# Altium footprint library MoBo_PcbLib.PcbLib: 16 footprints
Each footprint in its own frame and in the unit in brackets; x right, y up, seen from the top. Pads: shape width x height; smd on the part's side, far side on the other; paste and mask are expansions set on the pad; w line width, h text height; cw(c..) or ccw(c..) is an arc to the next point about the centre after c.
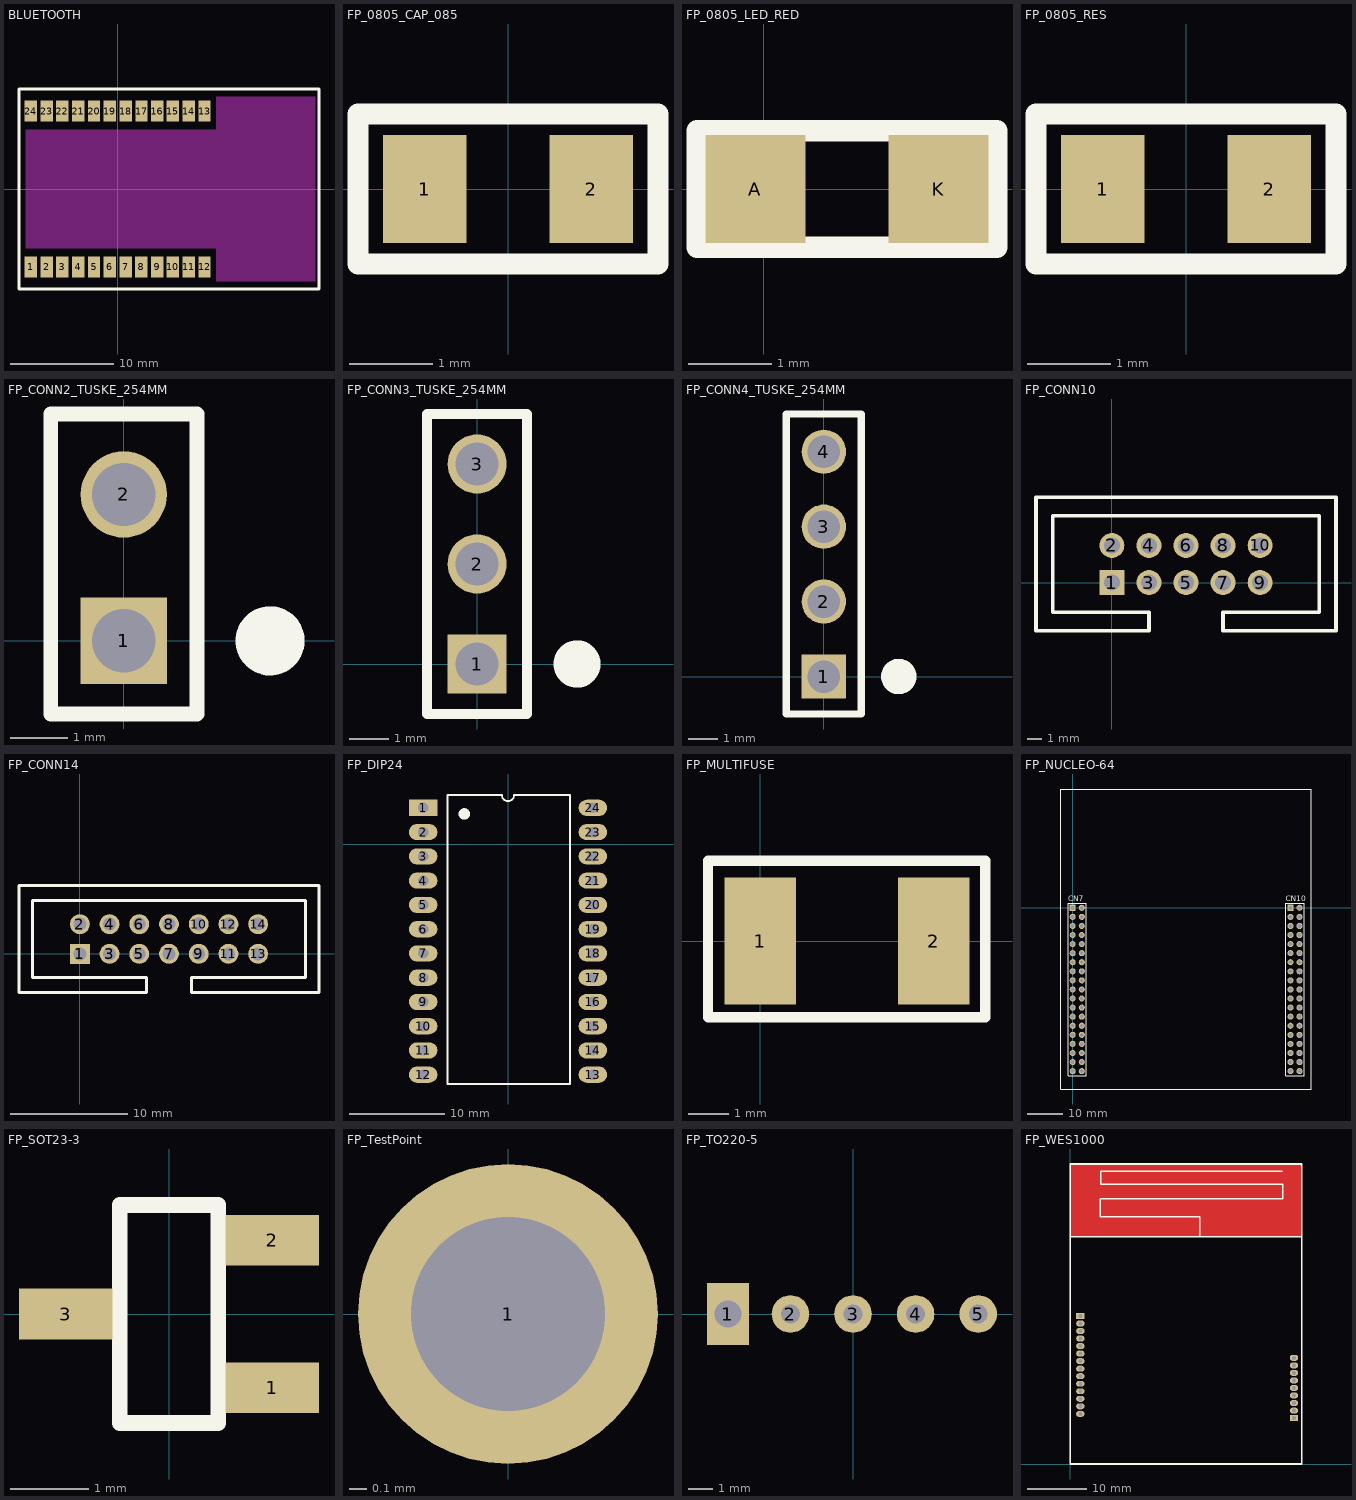
[diagram p0: the footprints below, top view; thin cyan lines are the x and y axes]

## BLUETOOTH [mm]
pads (24):
  rect 1.2x2 smd: 1(-8.382,-7.52) 2(-6.858,-7.52) 3(-5.334,-7.52) 4(-3.81,-7.52) 5(-2.286,-7.52) 6(-0.762,-7.52) 7(0.762,-7.52) 8(2.286,-7.52) 9(3.81,-7.52) 10(5.334,-7.52) 11(6.858,-7.52) 12(8.382,-7.52) 13(8.382,7.52) 14(6.858,7.52) 15(5.334,7.52) 16(3.81,7.52) 17(2.3,7.52) 18(0.762,7.52) 19(-0.762,7.52) 20(-2.286,7.52) 21(-3.81,7.52) 22(-5.334,7.52) 23(-6.858,7.52) 24(-8.382,7.52)
Top Overlay:
  lines w0.254: -9.525,-9.652 -9.525,9.652 19.431,9.652 19.431,-9.652 -9.525,-9.652
Keep-Out Layer:
  region: -8.89,5.715 -8.89,-5.715 9.525,-5.715 9.525,-8.89 19.05,-8.89 19.05,8.89 9.525,8.89 9.525,5.842 9.525,5.715

## FP_0805_CAP_085 [mm] "0805 kapacitás YAGEO 0.85mm magas"
height 0.86
pads (2):
  rect 1x1.3 smd: 1(-1,0) 2(1,0)
Top Overlay:
  lines w0.254: -1.8,-0.9 -1.8,0.9 1.8,0.9 1.8,-0.9 -1.8,-0.9
3D body: height 0.85, standoff 0, extent -0.644,-0.635 0.676,0.635
3D body: height 0.85, standoff 0, extent 0.676,-0.635 1.032,0.635
3D body: height 0.85, standoff 0, extent -1,-0.635 -0.644,0.635

## FP_0805_LED_RED [mm] "0805 méretû piros LED"
height 1
pads (2):
  rect 1.2x1.3 smd: A(-0.1,0) K(2.1,0)
Top Overlay:
  lines w0.254: 2.3,-0.7 2.3,0.7 ; -0.8,-0.7 2.8,-0.7 2.8,0.7 -0.8,0.7 -0.8,-0.7
3D body "led_0805r.STEP": height 1.1, standoff 0, extent 0.006,-0.625 2.026,0.625

## FP_0805_RES [mm] "0805 ellenállás"
height 0.5
pads (2):
  rect 1x1.3 smd: 1(-1,0) 2(1,0)
Top Overlay:
  lines w0.254: -1.8,-0.9 -1.8,0.9 1.8,0.9 1.8,-0.9 -1.8,-0.9
3D body "0805RES.STEP": height 0.62, standoff 0.02, extent -1,-0.625 1,0.625

## FP_CONN2_TUSKE_254MM [mm] "3×1 tüskesor"
height 8.54
pads (2):
  rect 1.5x1.5 hole 1.1: 1(0,0)
  round 1.5 hole 1.1: 2(0,2.54)
Top Overlay:
  circle w0.6: c2.54,0 r0.3
  lines w0.254: -1.27,-1.27 -1.27,3.937 1.27,3.937 1.27,-1.27 -1.27,-1.27
3D body: height 2.54, standoff 0, extent -1.27,-1.27 1.27,3.81
3D body: height 0, standoff -3, extent -0.33,-0.33 0.33,0.33
3D body: height 0, standoff -3, extent -0.33,2.21 0.33,2.87
3D body: height 8.54, standoff 2.54, extent -0.33,2.21 0.33,2.87
3D body: height 8.54, standoff 2.54, extent -0.33,-0.33 0.33,0.33

## FP_CONN3_TUSKE_254MM [mm] "3×1 tüskesor"
height 8.54
pads (3):
  rect 1.5x1.5 hole 1.1: 1(0,0)
  round 1.5 hole 1.1: 2(0,2.54) 3(0,5.08)
Top Overlay:
  circle w0.6: c2.54,0 r0.3
  lines w0.254: -1.27,-1.27 1.27,-1.27 1.27,6.35 -1.27,6.35 -1.27,-1.27
3D body: height 2.54, standoff 0, extent -1.27,3.81 1.27,6.35
3D body: height 0, standoff -3, extent -0.33,4.75 0.33,5.41
3D body: height 8.54, standoff 2.54, extent -0.33,4.75 0.33,5.41
3D body: height 8.54, standoff 2.54, extent -0.33,-0.33 0.33,0.33
3D body: height 8.54, standoff 2.54, extent -0.33,2.21 0.33,2.87
3D body: height 0, standoff -3, extent -0.33,2.21 0.33,2.87
3D body: height 0, standoff -3, extent -0.33,-0.33 0.33,0.33
3D body: height 2.54, standoff 0, extent -1.27,-1.27 1.27,3.81

## FP_CONN4_TUSKE_254MM [mm] "4×1 tüskesor"
height 8.54
pads (4):
  rect 1.5x1.5 hole 1.1: 1(0,0)
  round 1.5 hole 1.1: 2(0,2.54) 3(0,5.08) 4(0,7.62)
Top Overlay:
  circle w0.6: c2.54,0 r0.3
  lines w0.254: -1.27,-1.27 1.27,-1.27 1.27,8.9 -1.27,8.9 -1.27,-1.27
3D body: height 2.54, standoff 0, extent -1.27,3.81 1.27,8.89
3D body: height 0, standoff -3, extent -0.33,4.75 0.33,5.41
3D body: height 0, standoff -3, extent -0.33,7.29 0.33,7.95
3D body: height 8.54, standoff 2.54, extent -0.33,7.29 0.33,7.95
3D body: height 8.54, standoff 2.54, extent -0.33,4.75 0.33,5.41
3D body: height 8.54, standoff 2.54, extent -0.33,-0.33 0.33,0.33
3D body: height 8.54, standoff 2.54, extent -0.33,2.21 0.33,2.87
3D body: height 0, standoff -3, extent -0.33,2.21 0.33,2.87
3D body: height 0, standoff -3, extent -0.33,-0.33 0.33,0.33
3D body: height 2.54, standoff 0, extent -1.27,-1.27 1.27,3.81

## FP_CONN10 [mm]
height 9.1
pads (10):
  rect 1.7x1.7 hole 1.1: 1(0,0)
  round 1.7 hole 1.1: 2(0,2.54) 3(2.54,0) 4(2.54,2.54) 5(5.08,0) 6(5.08,2.54) 7(7.62,0) 8(7.62,2.54) 9(10.16,0) 10(10.16,2.54)
Top Overlay:
  lines w0.254: -5.207,-3.302 -5.207,5.842 15.367,5.842 15.367,-3.302 7.62,-3.302 7.62,-2.032 14.224,-2.032 14.224,4.572 -4.064,4.572 -4.064,-2.032 2.54,-2.032 2.54,-3.302 -5.207,-3.302

## FP_CONN14 [mm]
height 9.1
pads (14):
  rect 1.7x1.7 hole 1.1: 1(0,0)
  round 1.7 hole 1.1: 2(0,2.54) 3(2.54,0) 4(2.54,2.54) 5(5.08,0) 6(5.08,2.54) 7(7.62,0) 8(7.62,2.54) 9(10.16,0) 10(10.16,2.54) 11(12.7,0) 12(12.7,2.54) 13(15.24,0) 14(15.24,2.54)
Top Overlay:
  lines w0.254: -5.207,-3.302 5.715,-3.302 5.715,-2.032 -4.064,-2.032 -4.064,4.572 19.304,4.572 19.304,-2.032 9.525,-2.032 9.525,-3.302 20.447,-3.302 20.447,5.842 -5.207,5.842 -5.207,-3.302

## FP_DIP24 [mm] "DIP; 28 Leads; Row Spacing 7.62 mm; Pitch 2.54 mm"
height 5.08
pads (24):
  rect 3x1.7 hole 1.1: 1(-8.89,3.81)
  oval 3x1.7 hole 1.1: 2(-8.89,1.27) 3(-8.89,-1.27) 4(-8.89,-3.81) 5(-8.89,-6.35) 6(-8.89,-8.89) 7(-8.89,-11.43) 8(-8.89,-13.97) 9(-8.89,-16.51) 10(-8.89,-19.05) 11(-8.89,-21.59) 12(-8.89,-24.13) 13(8.89,-24.13) 14(8.89,-21.59) 15(8.89,-19.05) 16(8.89,-16.51) 17(8.89,-13.97) 18(8.89,-11.43) 19(8.89,-8.89) 20(8.89,-6.35) 21(8.89,-3.81) 22(8.89,-1.27) 23(8.89,1.27) 24(8.89,3.81)
Top Overlay:
  circle w0.6: c-4.572,3.175 r0.3
  lines w0.2: -6.35,-25.089 -6.35,5.15 -0.635,5.15 ccw(c0,5.15) 0.635,5.15 6.477,5.15 6.477,-25.089 1.325,-25.089 -1.325,-25.089 -6.35,-25.089

## FP_MULTIFUSE [mm] "POLYFUSE SMD 1812"
height 1
pads (2):
  rect 1.78x3.15 smd: 1(0,0) 2(4.318,0)
Top Overlay:
  lines w0.254: -1.3,-1.9 5.6,-1.9 5.6,2 -1.3,2 -1.3,-1.9
3D body: height 1, standoff 0, extent -0.126,-1.65 4.571,1.777

## FP_NUCLEO-64 [mm]
height 11
pads (76):
  rect 1.7x1.7 hole 1.1: 1(0,0) 39(60.96,0)
  round 1.7 hole 1.1: 2(2.54,0) 3(0,-2.54) 4(2.54,-2.54) 5(0,-5.08) 6(2.54,-5.08) 7(0,-7.62) 8(2.54,-7.62) 9(0,-10.16) 10(2.54,-10.16) 11(0,-12.7) 12(2.54,-12.7) 13(0,-15.24) 14(2.54,-15.24) 15(0,-17.78) 16(2.54,-17.78) 17(0,-20.32) 18(2.54,-20.32) 19(0,-22.86) 20(2.54,-22.86) 21(0,-25.4) 22(2.54,-25.4) 23(0,-27.94) 24(2.54,-27.94) 25(0,-30.48) 26(2.54,-30.48) 27(0,-33.02) 28(2.54,-33.02) 29(0,-35.56) 30(2.54,-35.56) 31(0,-38.1) 32(2.54,-38.1) 33(0,-40.64) 34(2.54,-40.64) 35(0,-43.18) 36(2.54,-43.18) 37(0,-45.72) 38(2.54,-45.72) 40(63.5,0) 41(60.96,-2.54) 42(63.5,-2.54) 43(60.96,-5.08) 44(63.5,-5.08) 45(60.96,-7.62) 46(63.5,-7.62) 47(60.96,-10.16) 48(63.5,-10.16) 49(60.96,-12.7) 50(63.5,-12.7) 51(60.96,-15.24) 52(63.5,-15.24) 53(60.96,-17.78) 54(63.5,-17.78) 55(60.96,-20.32) 56(63.5,-20.32) 57(60.96,-22.86) 58(63.5,-22.86) 59(60.96,-25.4) 60(63.5,-25.4) 61(60.96,-27.94) 62(63.5,-27.94) 63(60.96,-30.48) 64(63.5,-30.48) 65(60.96,-33.02) 66(63.5,-33.02) 67(60.96,-35.56) 68(63.5,-35.56) 69(60.96,-38.1) 70(63.5,-38.1) 71(60.96,-40.64) 72(63.5,-40.64) 73(60.96,-43.18) 74(63.5,-43.18) 75(60.96,-45.72) 76(63.5,-45.72)
Top Overlay:
  lines w0.2: -1.27,-46.99 -1.27,1.27 3.81,1.27 3.81,-46.99 -1.27,-46.99 ; 59.69,-46.99 59.69,1.27 64.77,1.27 64.77,-46.99 59.69,-46.99
  lines w0.254: -3.3,-50.725 66.725,-50.725 66.725,33.25 -3.3,33.25 -3.3,-50.725
  text "CN7" at -1.27,1.778 h1.52
  text "CN10" at 59.69,1.778 h1.52
3D body: height 11, standoff 10, extent -3.299,-50.724 66.724,33.249
3D body: height 10, standoff 0, extent -1.269,-46.989 3.809,1.269
3D body: height 10, standoff 0, extent 59.691,-46.989 64.769,1.269

## FP_SOT23-3 [mm] "SOT23-3 tok"
height 1.1
pads (3):
  rect 1.2x0.65 smd: 1(1.327,-0.95) 2(1.327,0.95) 3(-1.327,0)
Top Overlay:
  lines w0.2: -0.635,-1.4 0.635,-1.4 0.635,1.4 -0.635,1.4 -0.635,-1.4
3D body "SOT-23.STEP": height 0.97, standoff -0.01, extent -1.274,-1.46 1.274,1.46

## FP_TestPoint [mm] "TestPoint"
height 10
pads (1):
  round 1.7 hole 1.1: 1(0,0)

## FP_TO220-5 [mil]
pads (5):
  rect 66.93x98.43 hole 43.31: 1(-200,0)
  round 60 hole 30: 2(-100,0) 3(0,0) 4(100,0) 5(200,0)

## FP_WES1000 [mm]
height 2
pads (23):
  rect 1.4x1 hole 0.7 mask+0.1: 1(1.676,24.968) 15(37.719,7.747)
  oval 1.4x1 hole 0.7 mask+0.1: 2(1.676,23.698) 3(1.676,22.428) 4(1.676,21.158) 5(1.676,19.888) 6(1.676,18.618) 7(1.676,17.348) 8(1.676,16.078) 9(1.676,14.808) 10(1.676,13.538) 11(1.676,12.268) 12(1.676,10.998) 13(1.676,9.728) 14(1.676,8.458) 16(37.719,9.017) 17(37.719,10.287) 18(37.719,11.557) 19(37.719,12.827) 20(37.719,14.097) 21(37.719,15.367) 22(37.719,16.637) 23(37.719,17.907)
Top Layer:
  pour cut-out: 0,38.3 0,50.6 39,50.6 39,38.3
Bottom Layer:
  pour cut-out: 0,38.3 0,50.6 39,50.6 39,38.3
Top Overlay:
  lines w0.254: 0,38.3 39,38.3 ; 21.8,38.3 21.8,41.7 5,41.7 5,44.7 35.8,44.7 35.8,47.2 5.1,47.2 5.1,49.4 35.7,49.4 ; 0,0 39,0 39,50.6 0,50.6 0,0
Bottom Overlay:
  lines w0.2: 0.576,7.768 0.576,25.758 ; 2.776,7.768 2.776,25.758 ; 36.619,6.957 36.619,18.447 ; 38.819,6.957 38.819,18.447
3D body: height 2, standoff 0, extent -0.127,-0.127 39.127,50.727